# Altium schematic symbol library Transformer.SchLib: 1 symbol
Pins are listed as number, name and electrical type; pins without a type are passive.

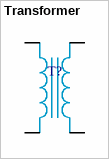
[diagram p0: symbol Transformer]

## Transformer
designator T?  (value not drawn)
pins: 1, 2, 3, 4